# Altium schematic symbol library common.SchLib: 62 symbols
Pins are listed as number, name and electrical type; pins without a type are passive.

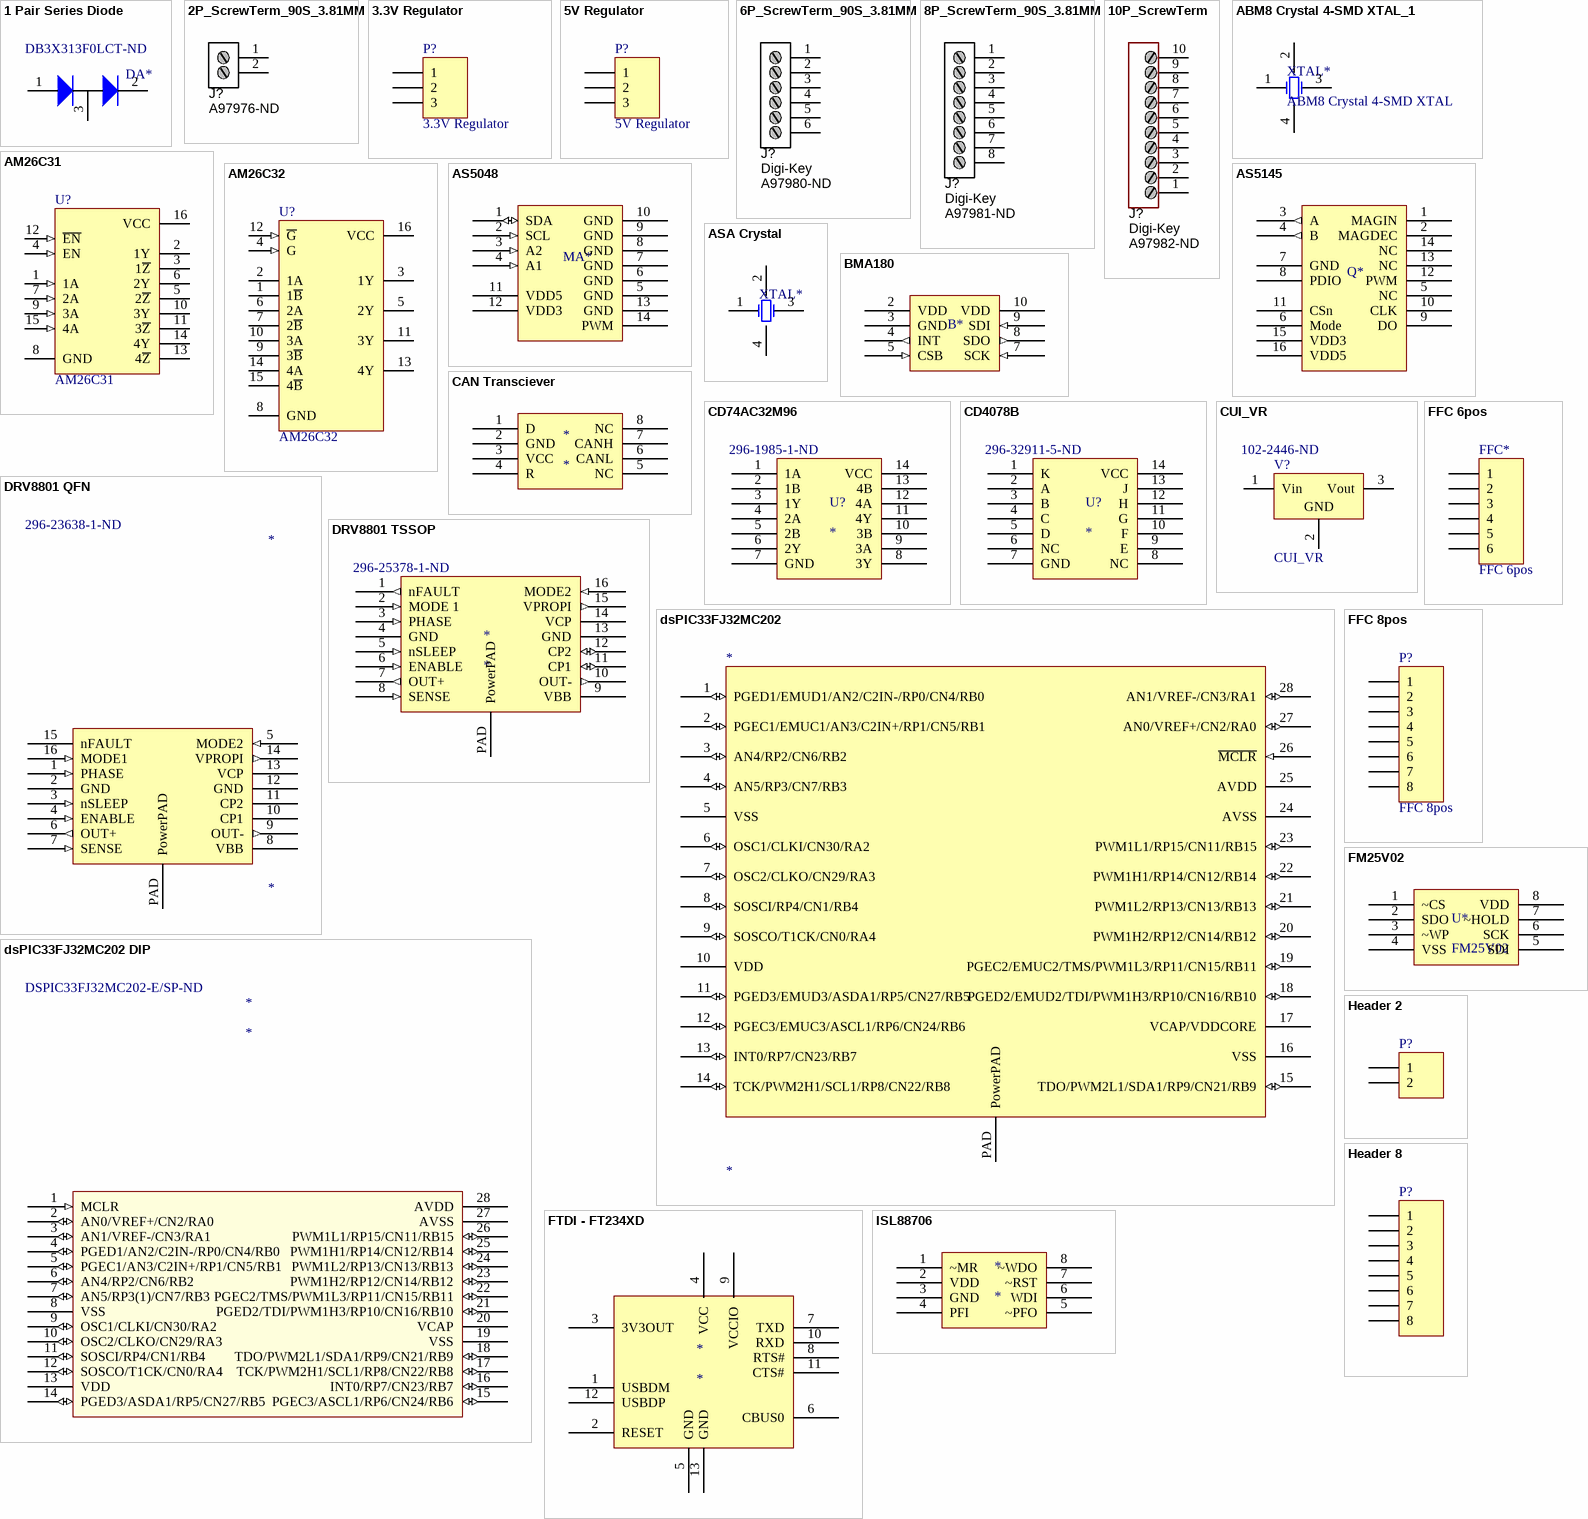
[diagram p0: symbols 1 Pair Series Diode to ISL88706]

## 1 Pair Series Diode
designator DA*  Supplier Part Number 1: DB3X313F0LCT-ND  (hidden comment: *)
1 Pair Series Diode; Supplier 1: Digi-Key
footprint SOT346-3AL (SOT346, 3-Leads, Body 2.9x1.5mm, Pitch 0.95mm, Lead Span 2.6mm, IPC High Density)
pins: 1, 2, 3

## 2P_ScrewTerm_90S_3.81MM
designator J?, comment Supplier Part Number 1: A97976-ND  (hidden comment: Stackable ScrewTerm)
Terminal Block Screw Type THT 2-Position 3.81mm pitch; Manufacturer 1: Tyco Electronics; Manufacturer Part Number 1: 1776113-2; Value: 2 position; Pitch: 0.150" (3.81mm); Positions Per Level: 2; SCDType: undef; Package / Case: Side Entry; 3.81mm pitch; Category: Connectors Interconnects; Color: Black; Supplier 1: Digi-Key
footprint 2P_PCB_ScrewTerm_90S_3.81MM (TERM BLOCK 2POS SIDE ENT STACKABLE 3.81MM)
pins: 1, 2

## 3.3V Regulator
designator P?
Header, 3-Pin; LatestRevisionDate: 17-Jul-2002; LatestRevisionNote: Re-released for DXP Platform.; Publisher: Altium Limited
footprint Voltage Regulator 3.3V (ZLDO1117G33DICT-ND)
signal-integrity model Connector
pins: 1, 2, 3

## 5V Regulator
designator P?
Header, 3-Pin; LatestRevisionDate: 17-Jul-2002; LatestRevisionNote: Re-released for DXP Platform.; Publisher: Altium Limited
signal-integrity model Connector
footprint Voltage Regulator 5V (497-7255-1-ND)
pins: 1, 2, 3

## 6P_ScrewTerm_90S_3.81MM
designator J?, comment Supplier 1: Digi-Key  Supplier Part Number 1: A97980-ND  (hidden comment: Stackable ScrewTerm)
Terminal Block, THT, 6-Position screwterm, 3.81mm pitch; Manufacturer 1: Tyco Electronics; Manufacturer Part Number 1: 1776113-6; Value: 6 position; Pitch: 0.150" (3.81mm); Positions Per Level: 6; SCDType: undef; Package / Case: Side Entry; 3.81mm pitch; Category: Connectors Interconnects; Color: Black
footprint 6P_PCB_ScrewTerm_90S_3.81MM (TERM BLOCK 6POS SIDE ENT STACKABLE 3.81MM)
pins: 1, 2, 3, 4, 5, 6

## 8P_ScrewTerm_90S_3.81MM
designator J?, comment Supplier 1: Digi-Key  Supplier Part Number 1: A97981-ND  (hidden comment: Stackable ScrewTerm)
Terminal Block, THT, 8-Position screwterm, 3.81mm pitch; Manufacturer 1: Tyco Electronics; Manufacturer Part Number 1: 1776113-8; Value: 8 position; Pitch: 0.150" (3.81mm); Positions Per Level: 8; SCDType: undef; Package / Case: Side Entry; 3.81mm pitch; Category: Connectors Interconnects; Color: Black
footprint 8P_PCB_ScrewTerm_90S_3.81MM (TERM BLOCK 8POS SIDE ENT STACKABLE 3.81MM)
pins: 1, 2, 3, 4, 5, 6, 7, 8

## 10P_ScrewTerm
designator J?  Supplier 1: Digi-Key  Supplier Part Number 1: A97982-ND  (hidden comment: *)
TERM BLOCK 10POS SIDE ENT 3.81MM; Manufacturer 1: Tyco Electronics; Manufacturer Part Number 1: 1-1776113-0; Current: 12A; Mating Orientation: Horizontal with Board; Pitch: 0.150" (3.81mm); Voltage: 150V; Wire Gauge: 16-28 AWG; Number of Levels: 1; Positions Per Level: 10; SCDType: undef; Category: Connectors; Color: Black; Features: -; Mounting Type: Through Hole; Terminal Block Type: Wire to Board; Termination: Screw; ComponentLink1URL: http://documents.tycoelectronics.com/commerce/DocumentDelivery/DDEController?Action=srchrtrv&DocNm=1776113&DocType=CD&DocLang=EN; ComponentLink1Description: http://documents.tycoelectronics.com/commerce/DocumentDelivery/DDEController?Action=srchrtrv&DocNm=1776113&DocType=CD&DocLang=EN; Package / Case: Side Entry; 3.81mm pitch
footprint 10P_PCB_ScrewTerm (TERM BLOCK 10POS SIDE ENT 3.81MM)
pins: 1, 2, 3, 4, 5, 6, 7, 8, 9, 10

## ABM8 Crystal 4-SMD XTAL_1
designator XTAL*, comment ABM8 Crystal 4-SMD XTAL
SMD Crystal
footprint ABM8 Crystal XTAL
pins: 1 OSC1, 2 GND, 3 OSC2, 4 GND (power)

## AM26C31
designator U?
Quadruple Differential Line Driver; Published: 15-May-2002; LatestRevisionDate: 13-Apr-2006; LatestRevisionNote: IPC-7351 Footprint Added.; DatasheetVersion: May-1990; PackageVersion: Jan-1998; PackageReference: D016; Publisher: Altium Limited; PackageDescription: 16-Pin Small Outline Integrated Circuit 1.27 mm Pitch; Code_IPC: SOIC127P600-16; ComponentLink1Description: Manufacturer Link; ComponentLink1URL: http://www.ti.com/; ComponentLink2Description: Datasheet; ComponentLink2URL: http://www-s.ti.com/sc/ds/am26ls31.pdf
footprint D016_N (SOIC, 16-Leads, Body 9.9x3.9mm, Pitch 1.27mm, IPC Medium Density)
footprint D016_L (SOIC, 16-Leads, Body 9.9x3.9mm, Pitch 1.27mm, IPC High Density)
footprint D016_M (SOIC, 16-Leads, Body 9.9x3.9mm, Pitch 1.27mm, IPC Low Density)
3D model D016 (16-Pin Small Outline Integrated Circuit 1.27 mm Pitch)
footprint SOIC127P602-16AM (SOIC, 16-Leads, Body 9.9x3.9mm, Pitch 1.27mm, IPC Low Density)
pins: 1 1A (in), 2 1Y (hiz), 3 1~{Z} (hiz), 4 EN (in), 5 2~{Z} (hiz), 6 2Y (hiz), 7 2A (in), 8 GND (power), 9 3A (in), 10 3Y (hiz), 11 3~{Z} (hiz), 12 ~{EN} (in), 13 4~{Z} (hiz), 14 4Y (hiz), 15 4A (in), 16 VCC (power)

## AM26C32
designator U?
Quadruple Differential Line Receiver; Note: Inputs have hysteresis (50mV typical).; Published: 15-May-2002; LatestRevisionDate: 13-Apr-2006; LatestRevisionNote: IPC-7351 Footprint Added.; DatasheetVersion: Sep-1986; PackageVersion: Jan-1998; PackageReference: D016; Publisher: Altium Limited; PackageDescription: 16-Pin Small Outline Integrated Circuit 1.27 mm Pitch; Code_IPC: SOIC127P600-16; ComponentLink1Description: Manufacturer Link; ComponentLink1URL: http://www.ti.com/; ComponentLink2Description: Datasheet; ComponentLink2URL: http://www-s.ti.com/sc/ds/am26ls32a.pdf
footprint D016_N (SOIC, 16-Leads, Body 9.9x3.9mm, Pitch 1.27mm, IPC Medium Density)
footprint D016_L (SOIC, 16-Leads, Body 9.9x3.9mm, Pitch 1.27mm, IPC High Density)
footprint D016_M (SOIC, 16-Leads, Body 9.9x3.9mm, Pitch 1.27mm, IPC Low Density)
3D model D016 (16-Pin Small Outline Integrated Circuit 1.27 mm Pitch)
footprint SOIC127P602-16AM (SOIC, 16-Leads, Body 9.9x3.9mm, Pitch 1.27mm, IPC Low Density)
pins: 1 1~{B}, 2 1A, 3 1Y (hiz), 4 G (in), 5 2Y (hiz), 6 2A, 7 2~{B}, 8 GND (power), 9 3~{B}, 10 3A, 11 3Y (hiz), 12 ~{G} (in), 13 4Y (hiz), 14 4A, 15 4~{B}, 16 VCC (power)

## AS5048
designator MA*  (value not drawn)
Magnetic Absolute Encoder
footprint AS5048 TSSOP14 (TSOP, 14-Leads, Body 5.1x4.5mm (max), Pitch 0.65mm, IPC High Density)
pins: 1 SDA (io), 2 SCL (in), 3 A2 (in), 4 A1 (in), 5 GND, 6 GND, 7 GND, 8 GND, 9 GND, 10 GND, 11 VDD5 (power), 12 VDD3 (power), 13 GND (power), 14 PWM

## AS5145
designator Q*  (value not drawn)
Magnetic Quadrature Encoder
footprint AS5145 SSOP16 (SOP, 16-Leads, Body 6.5x5.6mm (max), Pitch 0.65mm, IPC High Density)
pins: 1 MAGIN, 2 MAGDEC, 3 A (out), 4 B (out), 5 NC, 6 Mode, 7 GND, 8 PDIO, 9 DO, 10 CLK, 11 CSn, 12 PWM, 13 NC, 14 NC, 15 VDD3, 16 VDD5

## ASA Crystal
designator XTAL*, comment ASA Crystal 4-SMD XTAL  (value not drawn)
SMD Crystal
footprint ASA Oscillator (ASA Abracon Oscillator)
pins: 1 TRI, 2 GND, 3 OUT, 4 VDD (power)

## BMA180
designator B*  (value not drawn)
Triaxial Acceleration Sensor
pins: 1 hidden, 2 VDD (power), 3 GND (power), 4 INT (out), 5 CSB (in), 6 hidden, 7 SCK (in), 8 SDO (out), 9 SDI (in), 10 VDD (power), 11 hidden, 12 hidden

## CAN Transciever
designator *
footprint SOIC127P600-8CM (SOIC, 8-Leads, Body 4.9x3.9mm, Pitch 1.27mm, IPC Low Density)
pins: 1 D, 2 GND, 3 VCC, 4 R, 5 NC, 6 CANL, 7 CANH, 8 NC

## CD74AC32M96
designator U?  Supplier Part Number 1: 296-1985-1-ND
4x2-input OR Gate; Manufacturer 1: Texas Instruments; Manufacturer Part Number 1: CD74AC32M96; Logic Type: NOR/OR Gate; Number of Circuits: 1; Number of Inputs: 8; Schmitt Trigger Input: No; Output Type: Single-Ended; Current - Output High, Low: 6.8mA, 6.8mA; Voltage - Supply: 3 V ~ 18 V; Description 1: IC QUAD 2-INPUT OR GATE 14-SOIC; Category 1: Integrated Circuits (ICs); Current - Quiescent (Max): 4µA; Logic Level - Low: 0.3 V ~ 1.65 V; Logic Level - High: 1.2 V ~ 3.85 V; Max Propagation Delay @ V, Max CL: 9.5ns @ 5V, 50pF; RoHS: RoHS Compliant; Packaging: Tube; Operating Temperature: -55°C ~ 125°C; Mounting Type: Surface Mount; Package / Case: 14-TSSOP (0.173", 4.40mm Width); Supplier Device Package: 14-TSSOP; ComponentLink1URL: http://www.ti.com/lit/ds/symlink/cd4078b.pdf; ComponentLink1Description: http://www.ti.com/lit/ds/symlink/cd4078b.pdf; Supplier 1: Digi-Key; Stock 1: 7334; Pricing 1: 1=0.68, 10=0.577, 25=0.5056, 100=0.4326, 250=0.3752, 500=0.3178, 750=0.2744, 1000=0.245 (USD); Features: -; ComponentLink2URL: http://www.ti.com/lit/ds/symlink/cd74ac32.pdf; ComponentLink2Description: http://www.ti.com/lit/ds/symlink/cd74ac32.pdf
footprint SOIC127P600-14AM (SOIC, 14-Leads, Body 8.6x3.9mm, Pitch 1.27mm, IPC Low Density)
pins: 1 1A, 2 1B, 3 1Y, 4 2A, 5 2B, 6 2Y, 7 GND, 8 3Y, 9 3A, 10 3B, 11 4Y, 12 4A, 13 4B, 14 VCC

## CD4078B
designator U?  Supplier Part Number 1: 296-32911-5-ND
8-input NOR/OR Gate; Manufacturer 1: Texas Instruments; Manufacturer Part Number 1: CD4078BPW; Description 1: IC 8INPUT NOR/OR GATE 14-TSSOP; Category 1: Integrated Circuits (ICs); Number of Circuits: 1; Number of Inputs: 8; Schmitt Trigger Input: No; Output Type: Single-Ended; Current - Output High, Low: 6.8mA, 6.8mA; Voltage - Supply: 3 V ~ 18 V; Supplier 1: Digi-Key; RoHS: RoHS Compliant; Stock 1: 916; Pricing 1: 1=0.51, 10=0.432, 100=0.324, 250=0.2808, 500=0.2376, 750=0.2052, 1000=0.1836 (USD); Packaging: Tube; Logic Type: NOR/OR Gate; Operating Temperature: -55°C ~ 125°C; Mounting Type: Surface Mount; Package / Case: 14-TSSOP (0.173", 4.40mm Width); Supplier Device Package: 14-TSSOP; ComponentLink1URL: http://www.ti.com/lit/ds/symlink/cd4078b.pdf; ComponentLink1Description: http://www.ti.com/lit/ds/symlink/cd4078b.pdf
footprint TSOP65P640X120-14N (TSOP, 14-Leads, Body 5.1x4.5mm (max), Pitch 0.65mm, IPC Medium Density)
pins: 1 K, 2 A, 3 B, 4 C, 5 D, 6 NC, 7 GND, 8 NC, 9 E, 10 F, 11 G, 12 H, 13 J, 14 VCC

## CUI_VR
designator V?  Supplier Part Number 1: 102-2446-ND
CUI Voltage Regulator; Power (Watts) - Manufacture Series: 1.65W; Manufacturer 1: CUI Inc; Manufacturer Part Number 1: V7803W-500; Number of Outputs: 1; Voltage - Input (Min): 4.5V; Voltage - Input (Max): 28V; Voltage - Output 1: 3.3V; Current - Output (Max): 500mA; Efficiency: 90%; Description 1: CONVRT DC/DC REG 3.3V 500MA 3SIP; Category 1: Power Supplies - Board Mount; Published: 24-Mar-1999; LatestRevisionDate: 29-May-2009; LatestRevisionNote: IPC-7351 Footprint Added.; PackageReference: D2PAK; Publisher: Altium Limited; PackageDescription: 3-Pin Transistor Outline Package 2.54 mm Pitch, 15.1 mm Lead Span; RoHS: RoHS Compliant; Packaging: Cut Tape (CT); Type: Linear Regulator Replacement; Voltage - Output 2: -; Voltage - Output 3: -; Voltage - Isolation: -; Features: Remote On/Off, OTP, SCP; Mounting Type: Surface Mount; Package / Case: 10-SMD Module (6 Leads); Size / Dimension: 0.60" L x 0.34" W x 0.28" H (15.2mm x 8.6mm x 7.1mm); Operating Temperature: -40°C ~ 85°C; Power (Watts) - Max: 1.65W; ComponentLink1URL: http://www.cui.com/product/resource/digikeypdf/v78-500-smt.pdf; ComponentLink1Description: http://www.cui.com/product/resource/digikeypdf/v78-500-smt.pdf; Supplier 1: Digi-Key; Stock 1: 232; Pricing 1: 1=12.11, 5=12.02, 10=11.928, 50=11.377, 100=10.276, 250=10.09252, 500=9.909 (USD); ComponentLink2URL: http://www.cui.com/product/resource/digikeypdf/v78w-500.pdf; ComponentLink2Description: http://www.cui.com/product/resource/digikeypdf/v78w-500.pdf
footprint V78W-500 (CUI DC-DC Converter 500ma)
pins: 1 Vin, 2 GND, 3 Vout

## DRV8801 QFN
designator *  Supplier Part Number 1: 296-23638-1-ND
DMOS Full-Bridge Motor Driver; Supplier 1: Digi-Key
footprint DRV8801 QFN (QFN, 16-Leads, Body 4.2x4.2mm (max), Pitch 0.65mm, IPC Medium Density)
pins: 1 PHASE (in) "Phase Logic Input for Direction Control", 2 GND (power) "Ground", 3 nSLEEP (in) "Sleep Logic Input", 4 ENABLE (in) "Enable Logic Input", 5 MODE2 (in) "Mode 2 Logic Input", 6 OUT+ (out) "DMOS Full-Bridge Output Positive", 7 SENSE (in) "Sense Power Return", 8 VBB (power) "Load Supply Voltage", 9 OUT- (out) "DMOS Full-Bridge Output Negative", 10 CP1 "Charge-Pump Capacitor 1", 11 CP2 "Charge-Pump Capacitor 2", 12 GND (power) "Ground", 13 VCP "Reservoir Capacitor", 14 VPROPI (out) "Winding Current Proportional Voltage Output", 15 nFAULT (oc) "Fault Open-Drain Output", 16 MODE1 (in) "Mode Logic Input", PAD PowerPAD (power) "Exposed Pad for Thermal Dissipation"

## DRV8801 TSSOP
designator *  Supplier Part Number 1: 296-25378-1-ND
HBRIDGE TSSOP; Supplier 1: Digi-Key
footprint DRV8801 TSOP TSOP65P640X120_HS-16N (TSOP, 16-Leads, Body 5.1x4.5mm (max), Pitch 0.65mm, IPC Medium Density)
pins: 1 nFAULT (out), 2 MODE 1 (in), 3 PHASE (in), 4 GND (power), 5 nSLEEP (in), 6 ENABLE (in), 7 OUT+ (out), 8 SENSE (in), 9 VBB (power), 10 OUT- (out), 11 CP1 (io), 12 CP2 (io), 13 GND (power), 14 VCP (power), 15 VPROPI (out), 16 MODE2 (in), PAD PowerPAD (power) "Exposed Pad for Thermal Dissipation"

## dsPIC33FJ32MC202
designator *
16-bit Digital Signal Controller
footprint QFN6X6-28 (Quad Flat No Lead, Plastic, Punch; 28 Terminals; Body 6 x 6 mm; Pitch 0.65 mm)
footprint DIP-28 (Plastic DIP; 28 Leads; Row Spacing 7.62 mm; Pitch 2.54 mm); pin to pad 1>4 2>5 3>6 4>7 5>8 6>9 7>10 8>11 9>12 10>13 11>14 12>15 13>16 14>17 15>18 16>19 17>20 18>21 19>22 20>23 21>24 22>25 23>26 24>27 25>28 26>1 27>2 28>3 PAD>none
pins: 1 PGED1/EMUD1/AN2/C2IN-/RP0/CN4/RB0 (io), 2 PGEC1/EMUC1/AN3/C2IN+/RP1/CN5/RB1 (io), 3 AN4/RP2/CN6/RB2 (io), 4 AN5/RP3/CN7/RB3 (io), 5 VSS (power), 6 OSC1/CLKI/CN30/RA2 (io), 7 OSC2/CLKO/CN29/RA3 (io), 8 SOSCI/RP4/CN1/RB4 (io), 9 SOSCO/T1CK/CN0/RA4 (io), 10 VDD (power), 11 PGED3/EMUD3/ASDA1/RP5/CN27/RB5 (io), 12 PGEC3/EMUC3/ASCL1/RP6/CN24/RB6 (io), 13 INT0/RP7/CN23/RB7 (io), 14 TCK/PWM2H1/SCL1/RP8/CN22/RB8 (io), 15 TDO/PWM2L1/SDA1/RP9/CN21/RB9 (io), 16 VSS (power), 17 VCAP/VDDCORE, 18 PGED2/EMUD2/TDI/PWM1H3/RP10/CN16/RB10 (io), 19 PGEC2/EMUC2/TMS/PWM1L3/RP11/CN15/RB11 (io), 20 PWM1H2/RP12/CN14/RB12 (io), 21 PWM1L2/RP13/CN13/RB13 (io), 22 PWM1H1/RP14/CN12/RB14 (io), 23 PWM1L1/RP15/CN11/RB15 (io), 24 AVSS (power), 25 AVDD (power), 26 ~{MCLR} (in), 27 AN0/VREF+/CN2/RA0 (io), 28 AN1/VREF-/CN3/RA1 (io), PAD PowerPAD (power)

## dsPIC33FJ32MC202 DIP
designator *  Supplier Part Number 1: DSPIC33FJ32MC202-E/SP-ND
16-bit Digital Signal Controller; Supplier 1: Digi-Key
footprint DIP-28 (Plastic DIP; 28 Leads; Row Spacing 7.62 mm; Pitch 2.54 mm)
pins: 1 MCLR (in), 2 AN0/VREF+/CN2/RA0 (io), 3 AN1/VREF-/CN3/RA1 (io), 4 PGED1/AN2/C2IN-/RP0/CN4/RB0 (io), 5 PGEC1/AN3/C2IN+/RP1/CN5/RB1 (io), 6 AN4/RP2/CN6/RB2 (io), 7 AN5/RP3(1)/CN7/RB3 (io), 8 VSS (power), 9 OSC1/CLKI/CN30/RA2 (io), 10 OSC2/CLKO/CN29/RA3 (io), 11 SOSCI/RP4/CN1/RB4 (io), 12 SOSCO/T1CK/CN0/RA4 (io), 13 VDD (power), 14 PGED3/ASDA1/RP5/CN27/RB5 (io), 15 PGEC3/ASCL1/RP6/CN24/RB6 (io), 16 INT0/RP7/CN23/RB7 (io), 17 TCK/PWM2H1/SCL1/RP8/CN22/RB8 (io), 18 TDO/PWM2L1/SDA1/RP9/CN21/RB9 (io), 19 VSS (power), 20 VCAP (power), 21 PGED2/TDI/PWM1H3/RP10/CN16/RB10 (io), 22 PGEC2/TMS/PWM1L3/RP11/CN15/RB11 (io), 23 PWM1H2/RP12/CN14/RB12 (io), 24 PWM1L2/RP13/CN13/RB13 (io), 25 PWM1H1/RP14/CN12/RB14 (io), 26 PWM1L1/RP15/CN11/RB15 (io), 27 AVSS (power), 28 AVDD (power)

## FFC 6pos
designator FFC*
FFC Connector, 6-Pin; LatestRevisionDate: 17-Jul-2002; LatestRevisionNote: Re-released for DXP Platform.; Publisher: Altium Limited
signal-integrity model Connector
footprint FFC Hirose FH34S 6 pos (Hirose FH34S 6 Pos)
pins: 1, 2, 3, 4, 5, 6

## FFC 8pos
designator P?
Header, 8-Pin; LatestRevisionDate: 17-Jul-2002; LatestRevisionNote: Re-released for DXP Platform.; Publisher: Altium Limited
footprint Molex 0527450897 (0527450897 Molex FFC)
signal-integrity model Connector
pins: 1, 2, 3, 4, 5, 6, 7, 8

## FM25V02
designator U*
NVRAM FRAM Serial-SPI 256K-Bit 3V/3.3V 8-Pin SOIC
pins: 1 ~CS, 2 SDO, 3 ~WP, 4 VSS, 5 SDI, 6 SCK, 7 ~HOLD, 8 VDD

## FTDI - FT234XD
designator *
pins: 1 USBDM, 2 RESET, 3 3V3OUT, 4 VCC, 5 GND, 6 CBUS0, 7 TXD, 8 RTS#, 9 VCCIO, 10 RXD, 11 CTS#, 12 USBDP, 13 GND

## Header 2
designator P?
Header, 2-Pin; LatestRevisionDate: 17-Jul-2002; LatestRevisionNote: Re-released for DXP Platform.; Publisher: Altium Limited
signal-integrity model Connector
footprint HDR1X2 (Connector; Header; 2 Position)
pins: 1, 2

## Header 8
designator P?
Header, 8-Pin; LatestRevisionDate: 17-Jul-2002; LatestRevisionNote: Re-released for DXP Platform.; Publisher: Altium Limited
footprint HDR1X8 (Connector; Header; 8 Position)
signal-integrity model Connector
pins: 1, 2, 3, 4, 5, 6, 7, 8

## ISL88706
designator *
3.3V Watchdog
footprint SOIC127P600-8BM (SOIC, 8-Leads, Body 4.9x3.9mm, Pitch 1.27mm, IPC Low Density)
pins: 1 ~MR, 2 VDD, 3 GND, 4 PFI, 5 ~PFO, 6 WDI, 7 ~RST, 8 ~WDO

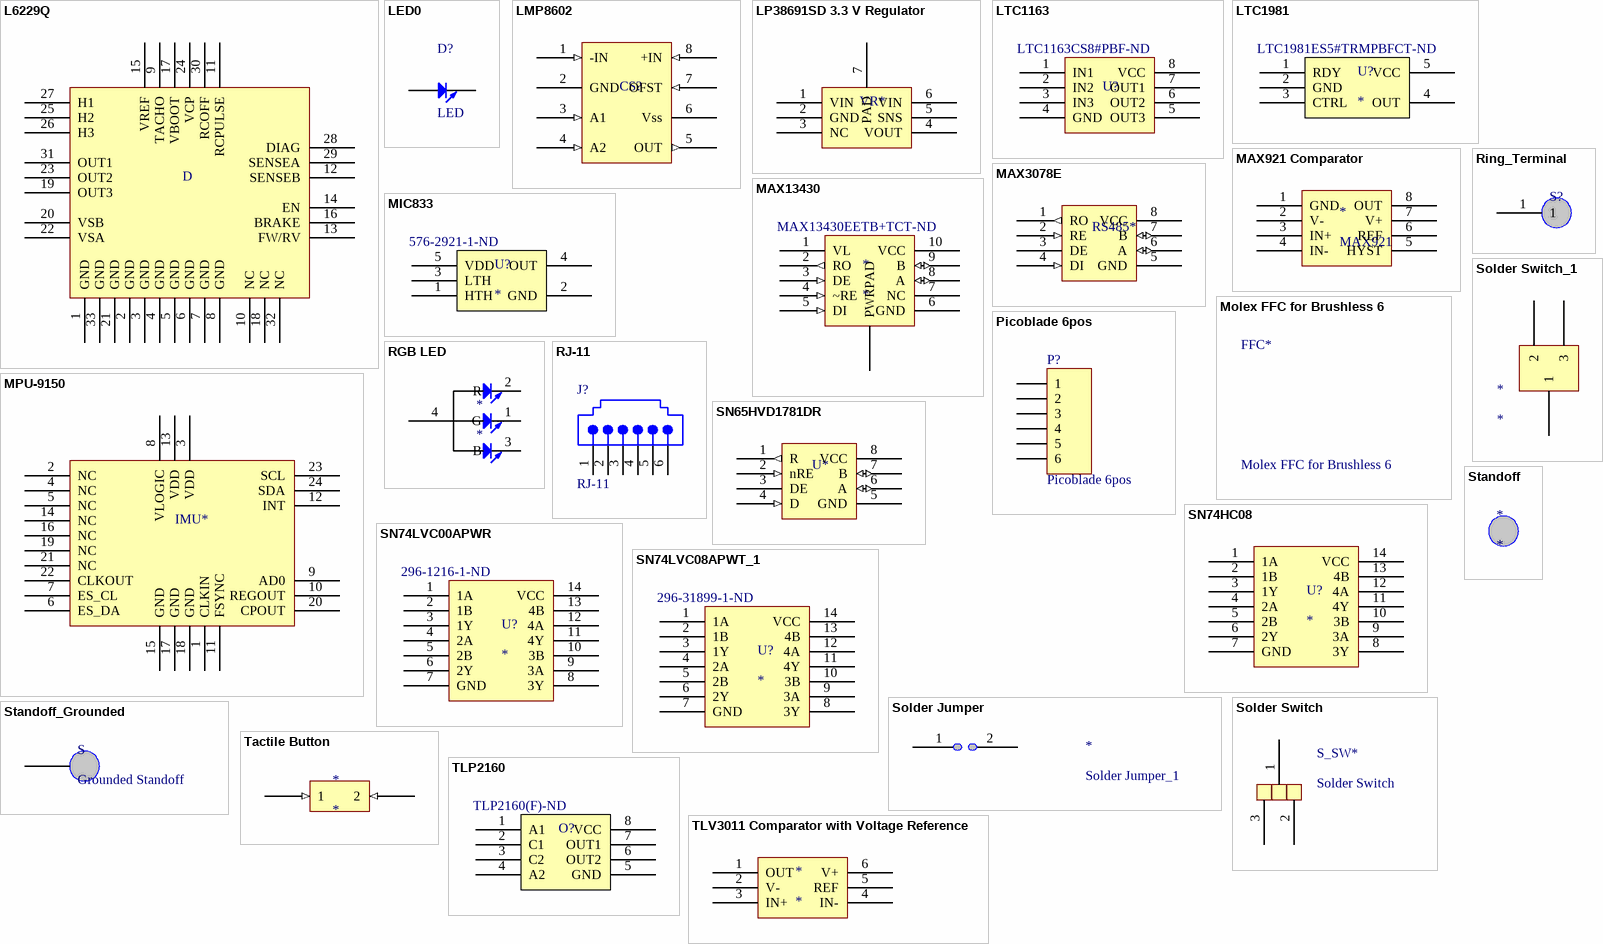
[diagram p1: symbols L6229Q to TLV3011 Comparator with Voltage Reference]

## L6229Q
designator D  (value not drawn)
3-Phase BLDC DMOS Driver
footprint QFN50P500X500X95-32N (QFN, 32-Leads, Body 5.2x5.2mm (max), Pitch 0.50mm, IPC Medium Density)
pins: 1 GND, 2 GND, 3 GND, 4 GND, 5 GND, 6 GND, 7 GND, 8 GND, 9 TACHO, 10 NC, 11 RCPULSE, 12 SENSEB, 13 FW/RV, 14 EN, 15 VREF, 16 BRAKE, 17 VBOOT, 18 NC, 19 OUT3, 20 VSB, 21 GND, 22 VSA, 23 OUT2, 24 VCP, 25 H2, 26 H3, 27 H1, 28 DIAG, 29 SENSEA, 30 RCOFF, 31 OUT1, 32 NC, 33 GND (power)

## LED0
designator D?, comment LED
Published: 8-Jun-2000; LatestRevisionDate: 08-Jul-2005; LatestRevisionNote: Mech Layer 1 removed.; PackageReference: LED-0; Publisher: Altium Limited; PackageDescription: LED; 2 Leads
footprint LED-0 (LED; 2 Leads)
simulation model LED0 (Diode)
footprint 0402 LED (0402 LED Package)
footprint 0603 - LED
footprint 0805 - LED (0805 LED)
footprint 1206 LED
pins: 1 K, 2 A

## LMP8602
designator CS?, comment CS?  (value not drawn)
Current Sense Amplifier
footprint lmp8602 (8 pin MSOP lmp8602)
pins: 1 -IN (in), 2 GND (power), 3 A1 (in), 4 A2 (in), 5 OUT (out), 6 Vss (power), 7 OFST (in), 8 +IN (in)

## LP38691SD 3.3 V Regulator
designator VR*  (value not drawn)
3.3 V Regulator
footprint QFN95P300X300X80-6M (QFN, 6-Leads, Body 3.1x3.1mm (max), Pitch 0.95mm, IPC Low Density)
pins: 1 VIN, 2 GND, 3 NC, 4 VOUT, 5 SNS, 6 VIN, 7 PAD

## LTC1163
designator U?  Supplier Part Number 1: LTC1163CS8#PBF-ND  (hidden comment: *)
Triple 1.8V to 6V High-Side MOSFET Drivers; Manufacturer 1: Linear Technology; Manufacturer Part Number 1: LTC1163CS8#PBF; Description 1: IC MOSFET DVR HI-SIDE TRPL 8SOIC; Category 1: Integrated Circuits (ICs); Input Type: Non-Inverting; Delay Time: 130µs; Number of Configurations: 3; Voltage - Supply: 1.8 V ~ 6 V; Supplier 1: Digi-Key; RoHS: RoHS Compliant; Stock 1: 683; Pricing 1: 1=5.28, 25=3.5036, 100=2.9 (USD); Packaging: Tube; Configuration: High-Side; Current - Peak: -; Number of Outputs: 3; High Side Voltage - Max (Bootstrap): -; Operating Temperature: 0°C ~ 70°C; Mounting Type: Surface Mount; Package / Case: 8-SOIC (0.154", 3.90mm Width); Supplier Device Package: 8-SOIC; ComponentLink1URL: http://www.linear.com/docs/2848; ComponentLink1Description: http://www.linear.com/docs/2848
footprint SOIC127P600-8CM (SOIC, 8-Leads, Body 4.9x3.9mm, Pitch 1.27mm, IPC Low Density)
pins: 1 IN1, 2 IN2, 3 IN3, 4 GND, 5 OUT3, 6 OUT2, 7 OUT1, 8 VCC

## LTC1981
designator U?  Supplier Part Number 1: LTC1981ES5#TRMPBFCT-ND
Single High Side MOSFET Driver; Manufacturer 1: Linear Technology; Manufacturer Part Number 1: LTC1981ES5#TRMPBF; Description 1: IC HI-SIDE SW CTRL SNGL TSOT23-5; Category 1: Integrated Circuits (ICs); Configuration: High-Side; Input Type: Inverting; Delay Time: 85µs; Number of Configurations: 1; Voltage - Supply: 1.8 V ~ 5.5 V; Supplier 1: Digi-Key; RoHS: RoHS Compliant; Stock 1: 1205; Pricing 1: 1=3.04, 25=2.7136, 100=2.4422 (USD); Packaging: Cut Tape (CT); Current - Peak: -; Number of Outputs: 1; High Side Voltage - Max (Bootstrap): -; Operating Temperature: -40°C ~ 85°C; Mounting Type: Surface Mount; Package / Case: SOT-23-5 Thin, TSOT-23-5; Supplier Device Package: TSOT-23-5; ComponentLink1URL: http://www.linear.com/docs/1903; ComponentLink1Description: http://www.linear.com/docs/1903
footprint SOT23-5AM (SOT23, 5-Leads, Body 2.9x1.7mm, Pitch 0.95mm, Lead Span 2.8mm, IPC Low Density)
pins: 1 RDY, 2 GND, 3 CTRL, 4 OUT, 5 VCC

## MAX921 Comparator
designator *, comment MAX921
MAX921 Comparator
footprint SOIC127P600-8CM (SOIC, 8-Leads, Body 4.9x3.9mm, Pitch 1.27mm, IPC Low Density)
pins: 1 GND, 2 V-, 3 IN+, 4 IN-, 5 HYST, 6 REF, 7 V+, 8 OUT

## MAX3078E
designator RS485*, comment RS485  (value not drawn)
RS485 Driver IC
footprint MAX3078E RS485 SOIC127P590X175-8N (SOIC, 8-Leads, Body 5.0x4.0mm (max), Pitch 1.27mm, IPC Medium Density)
pins: 1 RO (out), 2 RE (in), 3 DE, 4 DI (in), 5 GND (power), 6 A (io), 7 B (io), 8 VCC (power)

## MAX13430
designator *  Supplier Part Number 1: MAX13430EETB+TCT-ND
RS-485 Transciever; Supplier 1: Digi-Key
footprint TDFN Maxim RS-485 (QFN, 10-Leads, Body 3.1x3.1mm (max), Pitch 0.50mm, IPC High Density)
pins: 1 VL (power), 2 RO (out), 3 DE (in), 4 ~RE (in), 5 DI (in), 6 GND (power), 7 NC (power), 8 A (io), 9 B (io), 10 VCC (power), 11 PWRPAD (power)

## MIC833
designator U?  Supplier Part Number 1: 576-2921-1-ND
Mircel Comparator with Reference and Hysteresis; Manufacturer 1: Micrel Inc; Manufacturer Part Number 1: MIC833YM5 TR; Description 1: IC COMP LATCHED W/REF SOT23-5; Category 1: Integrated Circuits (ICs); Number of Elements: 2; Output Type: Open Drain; Voltage - Supply, Single/Dual (±): 1.5 V ~ 5.5 V; Current - Output (Typ): 20mA; Propagation Delay (Max): 5µs; Supplier 1: Digi-Key; RoHS: RoHS Compliant; Stock 1: 4501; Pricing 1: 1=2.19, 10=1.879, 25=1.6908, 100=1.5342, 250=1.37764, 500=1.18978, 1000=1.00192 (USD); Packaging: Cut Tape (CT); Type: with Voltage Reference; Voltage - Input Offset (Max): -; Current - Input Bias (Max): -; Current - Quiescent (Max): -; CMRR, PSRR (Typ): -; Hysteresis: -; Operating Temperature: -40°C ~ 85°C; Package / Case: SC-74A, SOT-753; Mounting Type: Surface Mount; Supplier Device Package: SOT-23-5
footprint SOT23-5AM (SOT23, 5-Leads, Body 2.9x1.7mm, Pitch 0.95mm, Lead Span 2.8mm, IPC Low Density)
pins: 1 HTH, 2 GND, 3 LTH, 4 OUT, 5 VDD

## Molex FFC for Brushless 6
designator FFC*
FFC Connector, 6-Pin; LatestRevisionDate: 17-Jul-2002; LatestRevisionNote: Re-released for DXP Platform.; Publisher: Altium Limited
signal-integrity model Connector
footprint Molex 0527450897 (0527450897 Molex FFC)

## MPU-9150
designator IMU*
9-DOF IMU
footprint MPU-9150 (QFN, 24-Leads, Body 4.1x4.1mm (max), Pitch 0.50mm, IPC High Density)
pins: 1 CLKIN, 2 NC, 3 VDD, 4 NC, 5 NC, 6 ES_DA, 7 ES_CL, 8 VLOGIC, 9 AD0, 10 REGOUT, 11 FSYNC, 12 INT, 13 VDD, 14 NC, 15 GND, 16 NC, 17 GND, 18 GND, 19 NC, 20 CPOUT, 21 NC, 22 CLKOUT, 23 SCL, 24 SDA

## Picoblade 6pos
designator P?
Picoblade Header, 6-Pin; LatestRevisionDate: 17-Jul-2002; LatestRevisionNote: Re-released for DXP Platform.; Publisher: Altium Limited
signal-integrity model Connector
footprint PicoBlade 6POS (Connector; Header; 6 Position)
pins: 1, 2, 3, 4, 5, 6

## RGB LED
designator *
footprint LED RGB 4-SMD 0606 (LED RGB 40SMD 0606)
pins: 1 G, 2 R, 3 B, 4 A

## Ring_Terminal
designator S?  (value not drawn)
Ring_Terminal
footprint 0-80 Socket Cap
footprint 4-40 Panhead Standoff
footprint 2-56 Thruhole
footprint 10-32 Male Stud
pins: 1

## RJ-11
designator J?
Right Angle, Standard Profile, Offset Latch DECconnect, Flangeless PCB Jack; Ports: 1; Positions/Loaded: Port1 - 6 Offset Latch/6; PerformanceCategory: 3; PCB_Mounting: Thru-Hole; DrillSize: Nominal, Rounded to nearest 0.05mm; PCB_Layout: Complies with Manufacturer's Recommendation.; Published: 25-Jun-2002; DatasheetDocument: 18-Dec-2001; PackageDocument: 18-Dec-2001; PackageReference: 15-43-6110; Publisher: Altium Limited; ComponentLink1Description: Manufacturer Link; ComponentLink1URL: http://www.molex.com/; ComponentLink2Description: Datasheet; ComponentLink2URL: http://www.molex.com/cmc_upload/common_files/1212003_41369catalogpage.pdf
signal-integrity model Modular Jack
footprint RJ11
pins: 1, 2, 3, 4, 5, 6

## SN65HVD1781DR
designator U*  (value not drawn)
RS485 Driver IC
footprint SOIC127P600-8CM (SOIC, 8-Leads, Body 4.9x3.9mm, Pitch 1.27mm, IPC Low Density)
pins: 1 R (out), 2 nRE (in), 3 DE, 4 D (in), 5 GND (power), 6 A (io), 7 B (io), 8 VCC (power)

## SN74HC08
designator U?
4x2-input AND Gate
footprint SOIC127P600-14AM (SOIC, 14-Leads, Body 8.6x3.9mm, Pitch 1.27mm, IPC Low Density)
pins: 1 1A, 2 1B, 3 1Y, 4 2A, 5 2B, 6 2Y, 7 GND, 8 3Y, 9 3A, 10 3B, 11 4Y, 12 4A, 13 4B, 14 VCC

## SN74LVC00APWR
designator U?  Supplier Part Number 1: 296-1216-1-ND
4x2-input NAND Gate; Manufacturer 1: Texas Instruments; Manufacturer Part Number 1: SN74LVC00APWR; Logic Type: NOR/OR Gate; Number of Circuits: 1; Number of Inputs: 8; Schmitt Trigger Input: No; Output Type: Single-Ended; Current - Output High, Low: 6.8mA, 6.8mA; Voltage - Supply: 3 V ~ 18 V; Current - Quiescent (Max): 4µA; Logic Level - Low: 0.3 V ~ 1.65 V; Logic Level - High: 1.2 V ~ 3.85 V; Max Propagation Delay @ V, Max CL: 9.5ns @ 5V, 50pF; Description 1: IC QUAD 2-INPUT NAND 14-TSSOP; Category 1: Integrated Circuits (ICs); RoHS: RoHS Compliant; Packaging: Tube; Operating Temperature: -55°C ~ 125°C; Mounting Type: Surface Mount; Package / Case: 14-TSSOP (0.173", 4.40mm Width); Supplier Device Package: 14-TSSOP; ComponentLink1URL: http://www.ti.com/lit/ds/symlink/cd4078b.pdf; ComponentLink1Description: http://www.ti.com/lit/ds/symlink/cd4078b.pdf; Features: -; ComponentLink2URL: http://www.ti.com/lit/ds/symlink/cd74ac32.pdf; ComponentLink2Description: http://www.ti.com/lit/ds/symlink/cd74ac32.pdf; Supplier 1: Digi-Key; Stock 1: 5017; Pricing 1: 1=0.44, 10=0.341, 25=0.288, 100=0.2347, 250=0.19436, 500=0.16056, 750=0.13391, 1000=0.12025 (USD); ComponentLink3URL: http://www.ti.com/lit/ds/symlink/sn74lvc00a.pdf; ComponentLink3Description: http://www.ti.com/lit/ds/symlink/sn74lvc00a.pdf
footprint TSOP65P640-14AM (TSOP, 14-Leads, Body 5x4.4mm, Pitch 0.65mm, IPC Low Density)
pins: 1 1A, 2 1B, 3 1Y, 4 2A, 5 2B, 6 2Y, 7 GND, 8 3Y, 9 3A, 10 3B, 11 4Y, 12 4A, 13 4B, 14 VCC

## SN74LVC08APWT_1
designator U?  Supplier Part Number 1: 296-31899-1-ND
4x2-input AND Gate; Manufacturer 1: Texas Instruments; Manufacturer Part Number 1: SN74LVC08APWT; Logic Type: NOR/OR Gate; Number of Circuits: 1; Number of Inputs: 8; Schmitt Trigger Input: No; Output Type: Single-Ended; Current - Output High, Low: 6.8mA, 6.8mA; Voltage - Supply: 3 V ~ 18 V; Current - Quiescent (Max): 4µA; Logic Level - Low: 0.3 V ~ 1.65 V; Logic Level - High: 1.2 V ~ 3.85 V; Max Propagation Delay @ V, Max CL: 9.5ns @ 5V, 50pF; Description 1: IC QUAD 2-IN POS-AND GATE14TSSOP; Category 1: Integrated Circuits (ICs); RoHS: RoHS Compliant; Packaging: Tube; Operating Temperature: -55°C ~ 125°C; Mounting Type: Surface Mount; Package / Case: 14-TSSOP (0.173", 4.40mm Width); Supplier Device Package: 14-TSSOP; ComponentLink1URL: http://www.ti.com/lit/ds/symlink/cd4078b.pdf; ComponentLink1Description: http://www.ti.com/lit/ds/symlink/cd4078b.pdf; Features: -; ComponentLink2URL: http://www.ti.com/lit/ds/symlink/cd74ac32.pdf; ComponentLink2Description: http://www.ti.com/lit/ds/symlink/cd74ac32.pdf; Supplier 1: Digi-Key; Stock 1: 880; Pricing 1: 1=0.89, 10=0.776, 25=0.686, 100=0.5977 (USD)
footprint TSOP65P640-14AM (TSOP, 14-Leads, Body 5x4.4mm, Pitch 0.65mm, IPC Low Density)
pins: 1 1A, 2 1B, 3 1Y, 4 2A, 5 2B, 6 2Y, 7 GND, 8 3Y, 9 3A, 10 3B, 11 4Y, 12 4A, 13 4B, 14 VCC

## Solder Jumper
designator *, comment Solder Jumper_1
footprint Solder Jumper - NO
footprint HDR1X2 (Connector; Header; 2 Position)
pins: 1, 2

## Solder Switch
designator S_SW*
footprint Solder Switch
footprint Big Solder Switch
pins: 1 IN, 2 Out2, 3 OUT1

## Solder Switch_1
designator *
footprint Solder Switch
pins: 1 (power), 2 (power), 3 (power)

## Standoff
designator *
footprint 0-80 Socket Cap
footprint 4-40 Panhead Standoff
footprint 2-56 Thruhole

## Standoff_Grounded
designator S, comment Grounded Standoff
footprint 4-40 Panhead Standoff Grounded
pins: 1 GND

## Tactile Button
designator *
footprint Tactile Switch
pins: 1 (in), 2 (in)

## TLP2160
designator O?  Supplier Part Number 1: TLP2160(F)-ND  (hidden comment: TLP2160)
Dual Inverting Optocouplers; Manufacturer 1: Toshiba Semiconductor and Storage; Manufacturer Part Number 1: TLP2160(F); Description 1: ISOLATOR 2.5KVRMS 2CH TOTEM SO8; Category 1: Isolators; Number of Channels: 2; Inputs - Side 1/Side 2: 2/0; Voltage - Isolation: 2500Vrms; Common Mode Transient Immunity (Min): 20kV/µs; Input Type: DC; Output Type: Push-Pull, Totem Pole; Current - Output / Channel: 10mA; Data Rate: 20MBd; Propagation Delay tpLH / tpHL (Max): 40ns, 40ns; Rise / Fall Time (Typ): 15ns, 15ns; Voltage - Forward (Vf) (Typ): 1.55V; Current - DC Forward (If) (Max): 25mA; Voltage - Supply: 2.7 V ~ 5.5 V; Supplier 1: Digi-Key; RoHS: RoHS Compliant; Stock 1: 883; Pricing 1: 1=3.72, 10=3.325, 25=2.9924, 100=2.7265, 250=2.46052, 500=2.2078, 1000=1.862, 2500=1.7689, 5000=1.69575 (USD); Operating Temperature: -40°C ~ 125°C; Mounting Type: Surface Mount; Package / Case: 8-SOIC (0.154", 3.90mm Width); Supplier Device Package: 8-SO; ComponentLink1URL: http://www.semicon.toshiba.co.jp/info/docget.jsp?type=datasheet&lang=en&pid=TLP2160; ComponentLink1Description: http://www.semicon.toshiba.co.jp/info/docget.jsp?type=datasheet&lang=en&pid=TLP2160
footprint SOIC127P600-8CM (SOIC, 8-Leads, Body 4.9x3.9mm, Pitch 1.27mm, IPC Low Density)
pins: 1 A1, 2 C1, 3 C2, 4 A2, 5 GND, 6 OUT2, 7 OUT1, 8 VCC

## TLV3011 Comparator with Voltage Reference
designator *
footprint SOT95P280X145-6N (SOT23, 6-Leads, Body 3.0x3.0mm (max), Pitch 0.95mm, IPC Medium Density)
pins: 1 OUT, 2 V-, 3 IN+, 4 IN-, 5 REF, 6 V+

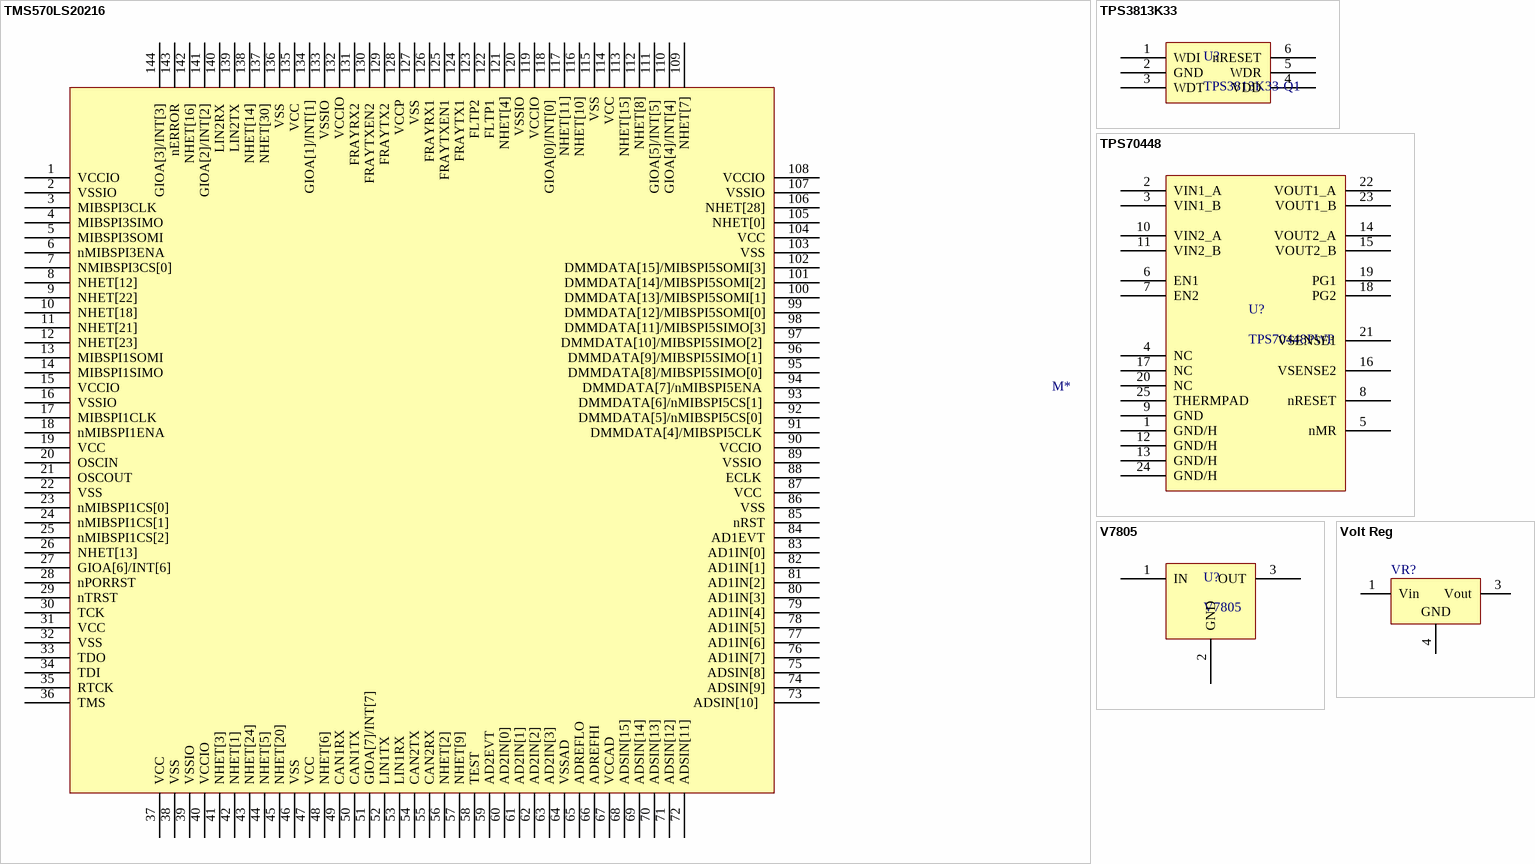
[diagram p2: symbols TMS570LS20216 to Volt Reg]

## TMS570LS20216
designator M*  (value not drawn)
TI Hercules 32 Bit ARM Safety Microcontroller
footprint Hercules 144 pin qfp footprint (TSQFP, 144-Leads, Body 22.2x22.2mm (max), Pitch 0.50mm, IPC Low Density)
pins: 1 VCCIO, 2 VSSIO, 3 MIBSPI3CLK, 4 MIBSPI3SIMO, 5 MIBSPI3SOMI, 6 nMIBSPI3ENA, 7 NMIBSPI3CS[0], 8 NHET[12], 9 NHET[22], 10 NHET[18], 11 NHET[21], 12 NHET[23], 13 MIBSPI1SOMI, 14 MIBSPI1SIMO, 15 VCCIO, 16 VSSIO, 17 MIBSPI1CLK, 18 nMIBSPI1ENA, 19 VCC, 20 OSCIN, 21 OSCOUT, 22 VSS, 23 nMIBSPI1CS[0], 24 nMIBSPI1CS[1], 25 nMIBSPI1CS[2], 26 NHET[13], 27 GIOA[6]/INT[6], 28 nPORRST, 29 nTRST, 30 TCK, 31 VCC, 32 VSS, 33 TDO, 34 TDI, 35 RTCK, 36 TMS, 37 VCC, 38 VSS, 39 VSSIO, 40 VCCIO, 41 NHET[3], 42 NHET[1], 43 NHET[24] , 44 NHET[5] , 45 NHET[20] , 46 VSS , 47 VCC , 48 NHET[6] , 49 CAN1RX , 50 CAN1TX , 51 GIOA[7]/INT[7] , 52 LIN1TX , 53 LIN1RX , 54 CAN2TX , 55 CAN2RX , 56 NHET[2], 57 NHET[9] , 58 TEST , 59 AD2EVT , 60 AD2IN[0] , 61 AD2IN[1], 62 AD2IN[2] , 63 AD2IN[3] , 64 VSSAD, 65 ADREFLO, 66 ADREFHI, 67 VCCAD, 68 ADSIN[15], 69 ADSIN[14] , 70 ADSIN[13]  , 71 ADSIN[12]  , 72 ADSIN[11]  , 73 ADSIN[10]  , 74 ADSIN[9], 75 ADSIN[8], 76 AD1IN[7], 77 AD1IN[6], 78 AD1IN[5], 79 AD1IN[4], 80 AD1IN[3], 81 AD1IN[2], 82 AD1IN[1], 83 AD1IN[0], 84 AD1EVT, 85 nRST, 86 VSS, 87 VCC , 88 ECLK , 89 VSSIO , 90 VCCIO , 91 DMMDATA[4]/MIBSPI5CLK , 92 DMMDATA[5]/nMIBSPI5CS[0] , 93 DMMDATA[6]/nMIBSPI5CS[1] , 94 DMMDATA[7]/nMIBSPI5ENA , 95 DMMDATA[8]/MIBSPI5SIMO[0] , 96 DMMDATA[9]/MIBSPI5SIMO[1] , 97 DMMDATA[10]/MIBSPI5SIMO[2] , 98 DMMDATA[11]/MIBSPI5SIMO[3], 99 DMMDATA[12]/MIBSPI5SOMI[0], 100 DMMDATA[13]/MIBSPI5SOMI[1], 101 DMMDATA[14]/MIBSPI5SOMI[2], 102 DMMDATA[15]/MIBSPI5SOMI[3], 103 VSS, 104 VCC, 105 NHET[0], 106 NHET[28], 107 VSSIO, 108 VCCIO, 109 NHET[7], 110 GIOA[4]/INT[4] , 111 GIOA[5]/INT[5] , 112 NHET[8], 113 NHET[15], 114 VCC, 115 VSS, 116 NHET[10], 117 NHET[11], 118 GIOA[0]/INT[0] , 119 VCCIO, 120 VSSIO, 121 NHET[4], 122 FLTP1 , 123 FLTP2 , 124 FRAYTX1 , 125 FRAYTXEN1 , 126 FRAYRX1 , 127 VSS , 128 VCCP , 129 FRAYTX2  , 130 FRAYTXEN2  , 131 FRAYRX2  , 132 VCCIO, 133 VSSIO , 134 GIOA[1]/INT[1] , 135 VCC  , 136 VSS  , 137 NHET[30]  , 138 NHET[14]  , 139 LIN2TX  , 140 LIN2RX  , 141 GIOA[2]/INT[2]  , 142 NHET[16]  , 143 nERROR  , 144 GIOA[3]/INT[3]  

## TPS3813K33
designator U?, comment TPS3813K33-Q1
TPS3813K33-Q1 Watchdog Timer
footprint SOT26A-6AN (SOT23, 6-Leads, Body 2.9x1.6mm, Pitch 0.95mm, Lead Span 2.5mm, IPC Medium Density)
pins: 1 WDI "Watchdog timer input", 2 GND "Ground", 3 WDT "Programmable watchdog delay input", 4 VDD "Supply voltage and supervising input", 5 WDR "Selectable watchdog window ratio input", 6 nRESET "Open-drain reset output"

## TPS70448
designator U?, comment TPS70448PWP
3.3V/1.5V Power Supply
pins: 1 GND/H, 2 VIN1_A, 3 VIN1_B, 4 NC, 5 nMR "Manual reset input, active low, pulled up internally", 6 EN1, 7 EN2, 8 nRESET "Open drain output, SVS (power-on reset) signal, active low", 9 GND, 10 VIN2_A, 11 VIN2_B, 12 GND/H, 13 GND/H, 14 VOUT2_A, 15 VOUT2_B, 16 VSENSE2, 17 NC, 18 PG2, 19 PG1, 20 NC, 21 VSENSE1, 22 VOUT1_A, 23 VOUT1_B, 24 GND/H, 25 THERMPAD

## V7805
designator U?
CUI V78XX-1500 Regulator
footprint V78XX-1500 (CUI DC-DC Converter 1500ma)
pins: 1 IN, 2 GND, 3 OUT

## Volt Reg
designator VR?
Voltage Regulator; Published: 24-Mar-1999; LatestRevisionDate: 29-May-2009; LatestRevisionNote: IPC-7351 Footprint Added.; PackageReference: D2PAK; Publisher: Altium Limited; PackageDescription: 3-Pin Transistor Outline Package 2.54 mm Pitch, 15.1 mm Lead Span
footprint D2PAK_N (D2-PAK, 4-Leads, Body 8.8x10.4mm, Pitch 2.54mm, Lead Span 15.1mm, IPC Medium Density)
footprint D2PAK_L (D2-PAK, 4-Leads, Body 8.8x10.4mm, Pitch 2.54mm, Lead Span 15.1mm, IPC High Density)
footprint D2PAK_M (D2-PAK, 4-Leads, Body 8.8x10.4mm, Pitch 2.54mm, Lead Span 15.1mm, IPC Low Density)
footprint T0-252-3 (D-PAK, 3-Pads, Body 6.2x6.7mm (max), IPC High Density)
pins: 1 Vin, 3 Vout, 4 GND